# EAGLE library part MICRO-SD-DM3AT (library MyComponents)
DM3 Series microSD Card Connectors
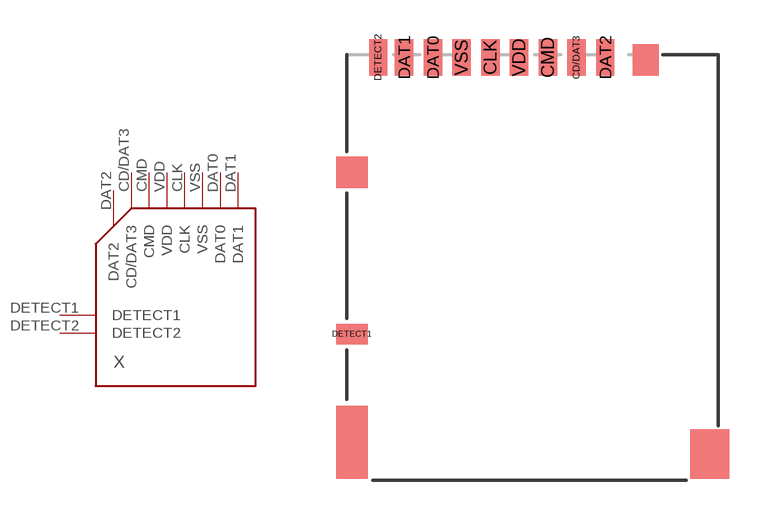
[diagram p0: symbol with the pads of DM3AT; footprint DM3AT]

Designator prefix X

## MICRO-SD-DM3AT (MOUSER: 798-DM3ATSFPEJM511)  [DM3AT]
CD/DAT3  CD/DAT3
CLK  CLK
CMD  CMD
DAT0  DAT0
DAT1  DAT1
DAT2  DAT2
DETECT1  DETECT1
DETECT2  DETECT2
VDD  VDD  pwr
VSS  VSS  pwr

## Footprint DM3AT (pad centres in mm)
DM3AT Push-Push (ejection mechanism), Top board mounting (Standard)
smd 0.7 x 1.4: CD/DAT3 1.44,7.685; CLK -1.86,7.685; CMD 0.34,7.685; DAT0 -4.06,7.685; DAT1 -5.16,7.685; DAT2 2.54,7.685; DETECT2 -6.15,7.685; VDD -0.76,7.685; VSS -2.96,7.685
smd 1.2 x 0.8: DETECT1 -7.16,-2.915